# Altium schematic symbol library LPC1788.SchLib: 1 symbol
Pins are listed as number, name and electrical type; pins without a type are passive.

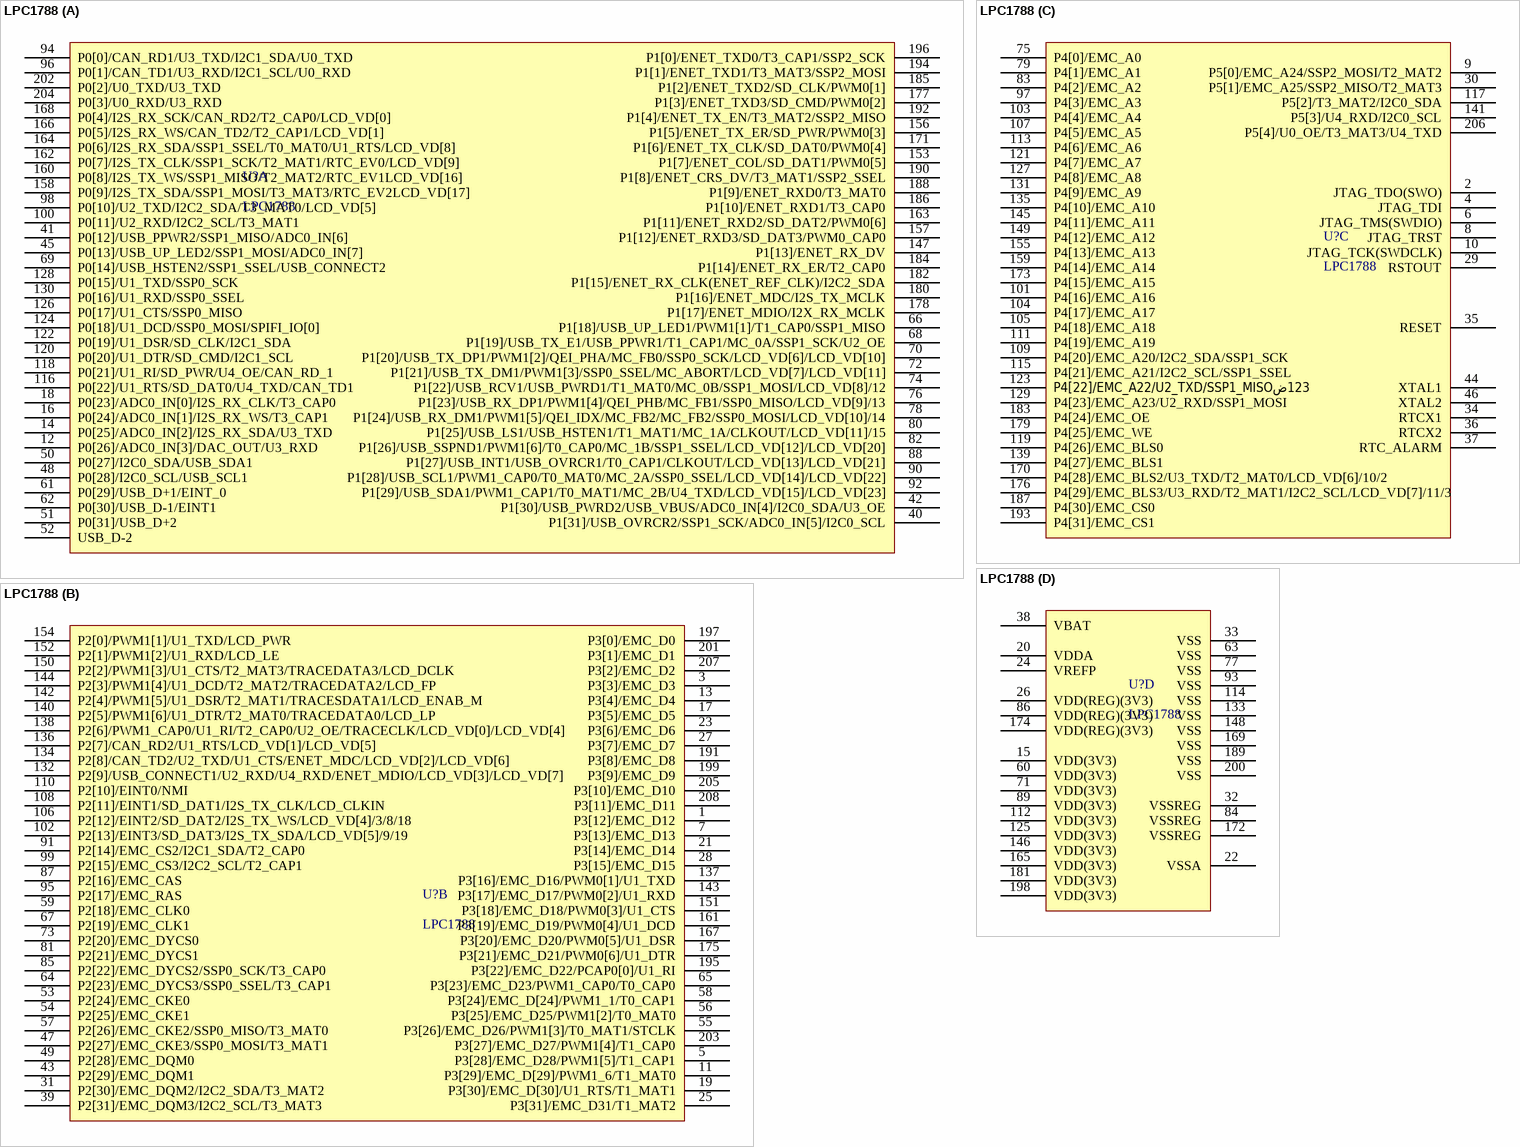
[diagram p0: symbol LPC1788]

## LPC1788
designator U?
footprint LQFP208 (TSQFP, 208-Leads, Body 28.00x28.00mm, Pitch 0.50mm, IPC Medium Density)
part A pins: 12 P0[26]/ADC0_IN[3]/DAC_OUT/U3_RXD, 14 P0[25]/ADC0_IN[2]/I2S_RX_SDA/U3_TXD, 16 P0[24]/ADC0_IN[1]/I2S_RX_WS/T3_CAP1, 18 P0[23]/ADC0_IN[0]/I2S_RX_CLK/T3_CAP0, 40 P1[31]/USB_OVRCR2/SSP1_SCK/ADC0_IN[5]/I2C0_SCL, 41 P0[12]/USB_PPWR2/SSP1_MISO/ADC0_IN[6], 42 P1[30]/USB_PWRD2/USB_VBUS/ADC0_IN[4]/I2C0_SDA/U3_OE, 45 P0[13]/USB_UP_LED2/SSP1_MOSI/ADC0_IN[7], 48 P0[28]/I2C0_SCL/USB_SCL1, 50 P0[27]/I2C0_SDA/USB_SDA1, 51 P0[31]/USB_D+2, 52 USB_D-2, 61 P0[29]/USB_D+1/EINT_0, 62 P0[30]/USB_D-1/EINT1, 66 P1[18]/USB_UP_LED1/PWM1[1]/T1_CAP0/SSP1_MISO, 68 P1[19]/USB_TX_E1/USB_PPWR1/T1_CAP1/MC_0A/SSP1_SCK/U2_OE, 69 P0[14]/USB_HSTEN2/SSP1_SSEL/USB_CONNECT2, 70 P1[20]/USB_TX_DP1/PWM1[2]/QEI_PHA/MC_FB0/SSP0_SCK/LCD_VD[6]/LCD_VD[10], 72 P1[21]/USB_TX_DM1/PWM1[3]/SSP0_SSEL/MC_ABORT/LCD_VD[7]/LCD_VD[11], 74 P1[22]/USB_RCV1/USB_PWRD1/T1_MAT0/MC_0B/SSP1_MOSI/LCD_VD[8]/12, 76 P1[23]/USB_RX_DP1/PWM1[4]/QEI_PHB/MC_FB1/SSP0_MISO/LCD_VD[9]/13, 78 P1[24]/USB_RX_DM1/PWM1[5]/QEI_IDX/MC_FB2/MC_FB2/SSP0_MOSI/LCD_VD[10]/14, 80 P1[25]/USB_LS1/USB_HSTEN1/T1_MAT1/MC_1A/CLKOUT/LCD_VD[11]/15, 82 P1[26]/USB_SSPND1/PWM1[6]/T0_CAP0/MC_1B/SSP1_SSEL/LCD_VD[12]/LCD_VD[20], 88 P1[27]/USB_INT1/USB_OVRCR1/T0_CAP1/CLKOUT/LCD_VD[13]/LCD_VD[21], 90 P1[28]/USB_SCL1/PWM1_CAP0/T0_MAT0/MC_2A/SSP0_SSEL/LCD_VD[14]/LCD_VD[22], 92 P1[29]/USB_SDA1/PWM1_CAP1/T0_MAT1/MC_2B/U4_TXD/LCD_VD[15]/LCD_VD[23], 94 P0[0]/CAN_RD1/U3_TXD/I2C1_SDA/U0_TXD, 96 P0[1]/CAN_TD1/U3_RXD/I2C1_SCL/U0_RXD, 98 P0[10]/U2_TXD/I2C2_SDA/T3_MAT0/LCD_VD[5], 100 P0[11]/U2_RXD/I2C2_SCL/T3_MAT1, 116 P0[22]/U1_RTS/SD_DAT0/U4_TXD/CAN_TD1, 118 P0[21]/U1_RI/SD_PWR/U4_OE/CAN_RD_1, 120 P0[20]/U1_DTR/SD_CMD/I2C1_SCL, 122 P0[19]/U1_DSR/SD_CLK/I2C1_SDA, 124 P0[18]/U1_DCD/SSP0_MOSI/SPIFI_IO[0], 126 P0[17]/U1_CTS/SSP0_MISO, 128 P0[15]/U1_TXD/SSP0_SCK, 130 P0[16]/U1_RXD/SSP0_SSEL, 147 P1[13]/ENET_RX_DV, 153 P1[7]/ENET_COL/SD_DAT1/PWM0[5], 156 P1[5]/ENET_TX_ER/SD_PWR/PWM0[3], 157 P1[12]/ENET_RXD3/SD_DAT3/PWM0_CAP0, 158 P0[9]/I2S_TX_SDA/SSP1_MOSI/T3_MAT3/RTC_EV2LCD_VD[17], 160 P0[8]/I2S_TX_WS/SSP1_MISO/T2_MAT2/RTC_EV1LCD_VD[16], 162 P0[7]/I2S_TX_CLK/SSP1_SCK/T2_MAT1/RTC_EV0/LCD_VD[9], 163 P1[11]/ENET_RXD2/SD_DAT2/PWM0[6], 164 P0[6]/I2S_RX_SDA/SSP1_SSEL/T0_MAT0/U1_RTS/LCD_VD[8], 166 P0[5]/I2S_RX_WS/CAN_TD2/T2_CAP1/LCD_VD[1], 168 P0[4]/I2S_RX_SCK/CAN_RD2/T2_CAP0/LCD_VD[0], 171 P1[6]/ENET_TX_CLK/SD_DAT0/PWM0[4], 177 P1[3]/ENET_TXD3/SD_CMD/PWM0[2], 178 P1[17]/ENET_MDIO/I2X_RX_MCLK, 180 P1[16]/ENET_MDC/I2S_TX_MCLK, 182 P1[15]/ENET_RX_CLK(ENET_REF_CLK)/I2C2_SDA, 184 P1[14]/ENET_RX_ER/T2_CAP0, 185 P1[2]/ENET_TXD2/SD_CLK/PWM0[1], 186 P1[10]/ENET_RXD1/T3_CAP0, 188 P1[9]/ENET_RXD0/T3_MAT0, 190 P1[8]/ENET_CRS_DV/T3_MAT1/SSP2_SSEL, 192 P1[4]/ENET_TX_EN/T3_MAT2/SSP2_MISO, 194 P1[1]/ENET_TXD1/T3_MAT3/SSP2_MOSI, 196 P1[0]/ENET_TXD0/T3_CAP1/SSP2_SCK, 202 P0[2]/U0_TXD/U3_TXD, 204 P0[3]/U0_RXD/U3_RXD
part B pins: 1 P3[12]/EMC_D12, 3 P3[3]/EMC_D3, 5 P3[28]/EMC_D28/PWM1[5]/T1_CAP1, 7 P3[13]/EMC_D13, 11 P3[29]/EMC_D[29]/PWM1_6/T1_MAT0, 13 P3[4]/EMC_D4, 17 P3[5]/EMC_D5, 19 P3[30]/EMC_D[30]/U1_RTS/T1_MAT1, 21 P3[14]/EMC_D14, 23 P3[6]/EMC_D6, 25 P3[31]/EMC_D31/T1_MAT2, 27 P3[7]/EMC_D7, 28 P3[15]/EMC_D15, 31 P2[30]/EMC_DQM2/I2C2_SDA/T3_MAT2, 39 P2[31]/EMC_DQM3/I2C2_SCL/T3_MAT3, 43 P2[29]/EMC_DQM1, 47 P2[27]/EMC_CKE3/SSP0_MOSI/T3_MAT1, 49 P2[28]/EMC_DQM0, 53 P2[24]/EMC_CKE0, 54 P2[25]/EMC_CKE1, 55 P3[26]/EMC_D26/PWM1[3]/T0_MAT1/STCLK, 56 P3[25]/EMC_D25/PWM1[2]/T0_MAT0, 57 P2[26]/EMC_CKE2/SSP0_MISO/T3_MAT0, 58 P3[24]/EMC_D[24]/PWM1_1/T0_CAP1, 59 P2[18]/EMC_CLK0, 64 P2[23]/EMC_DYCS3/SSP0_SSEL/T3_CAP1, 65 P3[23]/EMC_D23/PWM1_CAP0/T0_CAP0, 67 P2[19]/EMC_CLK1, 73 P2[20]/EMC_DYCS0, 81 P2[21]/EMC_DYCS1, 85 P2[22]/EMC_DYCS2/SSP0_SCK/T3_CAP0, 87 P2[16]/EMC_CAS, 91 P2[14]/EMC_CS2/I2C1_SDA/T2_CAP0, 95 P2[17]/EMC_RAS, 99 P2[15]/EMC_CS3/I2C2_SCL/T2_CAP1, 102 P2[13]/EINT3/SD_DAT3/I2S_TX_SDA/LCD_VD[5]/9/19, 106 P2[12]/EINT2/SD_DAT2/I2S_TX_WS/LCD_VD[4]/3/8/18, 108 P2[11]/EINT1/SD_DAT1/I2S_TX_CLK/LCD_CLKIN, 110 P2[10]/EINT0/NMI, 132 P2[9]/USB_CONNECT1/U2_RXD/U4_RXD/ENET_MDIO/LCD_VD[3]/LCD_VD[7], 134 P2[8]/CAN_TD2/U2_TXD/U1_CTS/ENET_MDC/LCD_VD[2]/LCD_VD[6], 136 P2[7]/CAN_RD2/U1_RTS/LCD_VD[1]/LCD_VD[5], 137 P3[16]/EMC_D16/PWM0[1]/U1_TXD, 138 P2[6]/PWM1_CAP0/U1_RI/T2_CAP0/U2_OE/TRACECLK/LCD_VD[0]/LCD_VD[4], 140 P2[5]/PWM1[6]/U1_DTR/T2_MAT0/TRACEDATA0/LCD_LP, 142 P2[4]/PWM1[5]/U1_DSR/T2_MAT1/TRACESDATA1/LCD_ENAB_M, 143 P3[17]/EMC_D17/PWM0[2]/U1_RXD, 144 P2[3]/PWM1[4]/U1_DCD/T2_MAT2/TRACEDATA2/LCD_FP, 150 P2[2]/PWM1[3]/U1_CTS/T2_MAT3/TRACEDATA3/LCD_DCLK, 151 P3[18]/EMC_D18/PWM0[3]/U1_CTS, 152 P2[1]/PWM1[2]/U1_RXD/LCD_LE, 154 P2[0]/PWM1[1]/U1_TXD/LCD_PWR, 161 P3[19]/EMC_D19/PWM0[4]/U1_DCD, 167 P3[20]/EMC_D20/PWM0[5]/U1_DSR, 175 P3[21]/EMC_D21/PWM0[6]/U1_DTR, 191 P3[8]/EMC_D8, 195 P3[22]/EMC_D22/PCAP0[0]/U1_RI, 197 P3[0]/EMC_D0, 199 P3[9]/EMC_D9, 201 P3[1]/EMC_D1, 203 P3[27]/EMC_D27/PWM1[4]/T1_CAP0, 205 P3[10]/EMC_D10, 207 P3[2]/EMC_D2, 208 P3[11]/EMC_D11
part C pins: 2 JTAG_TDO(SWO), 4 JTAG_TDI, 6 JTAG_TMS(SWDIO), 8 JTAG_TRST, 9 P5[0]/EMC_A24/SSP2_MOSI/T2_MAT2, 10 JTAG_TCK(SWDCLK), 29 RSTOUT, 30 P5[1]/EMC_A25/SSP2_MISO/T2_MAT3, 34 RTCX1, 35 RESET, 36 RTCX2, 37 RTC_ALARM, 44 XTAL1, 46 XTAL2, 75 P4[0]/EMC_A0, 79 P4[1]/EMC_A1, 83 P4[2]/EMC_A2, 97 P4[3]/EMC_A3, 101 P4[16]/EMC_A16, 103 P4[4]/EMC_A4, 104 P4[17]/EMC_A17, 105 P4[18]/EMC_A18, 107 P4[5]/EMC_A5, 109 P4[20]/EMC_A20/I2C2_SDA/SSP1_SCK, 111 P4[19]/EMC_A19, 113 P4[6]/EMC_A6, 115 P4[21]/EMC_A21/I2C2_SCL/SSP1_SSEL, 117 P5[2]/T3_MAT2/I2C0_SDA, 119 P4[26]/EMC_BLS0, 121 P4[7]/EMC_A7, 123 P4[22]/EMC_A22/U2_TXD/SSP1_MISOض123, 127 P4[8]/EMC_A8, 129 P4[23]/EMC_A23/U2_RXD/SSP1_MOSI, 131 P4[9]/EMC_A9, 135 P4[10]/EMC_A10, 139 P4[27]/EMC_BLS1, 141 P5[3]/U4_RXD/I2C0_SCL, 145 P4[11]/EMC_A11, 149 P4[12]/EMC_A12, 155 P4[13]/EMC_A13, 159 P4[14]/EMC_A14, 170 P4[28]/EMC_BLS2/U3_TXD/T2_MAT0/LCD_VD[6]/10/2, 173 P4[15]/EMC_A15, 176 P4[29]/EMC_BLS3/U3_RXD/T2_MAT1/I2C2_SCL/LCD_VD[7]/11/3, 179 P4[25]/EMC_WE, 183 P4[24]/EMC_OE, 187 P4[30]/EMC_CS0, 193 P4[31]/EMC_CS1, 206 P5[4]/U0_OE/T3_MAT3/U4_TXD
part D pins: 15 VDD(3V3), 20 VDDA, 22 VSSA, 24 VREFP, 26 VDD(REG)(3V3), 32 VSSREG, 33 VSS, 38 VBAT, 60 VDD(3V3), 63 VSS, 71 VDD(3V3), 77 VSS, 84 VSSREG, 86 VDD(REG)(3V3), 89 VDD(3V3), 93 VSS, 112 VDD(3V3), 114 VSS, 125 VDD(3V3), 133 VSS, 146 VDD(3V3), 148 VSS, 165 VDD(3V3), 169 VSS, 172 VSSREG, 174 VDD(REG)(3V3), 181 VDD(3V3), 189 VSS, 198 VDD(3V3), 200 VSS